# EAGLE library part PTN78020_ (library ptn78020_)
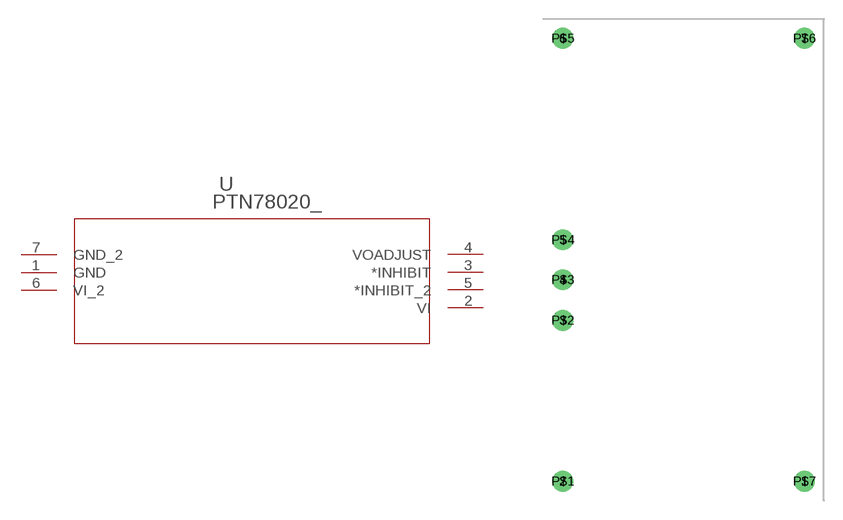
[diagram p0: symbol with the pads of EUK7; footprint EUK7]

Designator prefix -

## PTN78020_  [EUK7]
1  GND  pas
2  VI  pas
3  *INHIBIT  pas
4  VOADJUST  pas
5  *INHIBIT_2  pas
6  VI_2  pas
7  GND_2  pas

## Footprint EUK7 (pad centres in mm)
smd 1.016 x 1.016: 1 9.525,-17.475; 2 -9.525,-17.475; 3 -9.525,-4.775; 4 -9.525,-1.575; 5 -9.525,1.575; 6 -9.525,17.475; 7 9.525,17.475
drill 1.1: P$1 -9.525,-17.475; P$2 -9.525,-4.775; P$3 -9.525,-1.575; P$4 -9.525,1.575; P$5 -9.525,17.475; P$6 9.525,17.475; P$7 9.525,-17.475